# Altium schematic symbol library D Tunnel.Schlib: 1 symbol
Pins are listed as number, name and electrical type; pins without a type are passive.

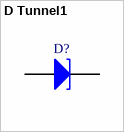
[diagram p0: symbol D Tunnel1]

## D Tunnel1
designator D?
Tunnel Diode - RLC Model
pins: 1 A, 2 K